# EAGLE library part 693071040911 (library WR-CRD)
WR-CRD SD Card Connectors Characteristics Available in two form factors: SD and MicroSD Available in three entry types: Push-Pull, Hinge and Push-Push SD 4.0 available in SD form factor for higher transfer speed Applications Single-board computers Surveillance systems Industrial data logging Consumer Electronics Drones <https://www.we-online.com/components/media/o32845v209%20Family_ConCRD_693071010811.jpg> Details see: www.we-online.com/components/products/WR-CRD_CARD_CONNECTORS_SD2 <www.we-online.com/catalog/WR-CRD_CARD_CONNECTORS_SD2/?utm_source=eagle_model&utm_medium=description_link&utm_campaign=eisos_eagle> Created by Ella Wu 2025-04-28 2025 (C) Würth Elektronik
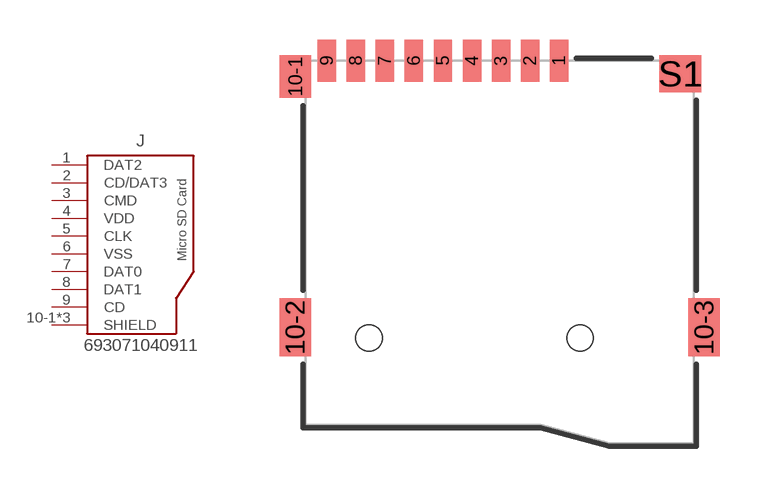
[diagram p0: symbol with the pads of 693071040911; footprint 693071040911]

Designator prefix J

## 693071040911 (DATASHEET-URL: https://www.we-online.com/redexpert/spec/693071040911?ae; DURABILITY: 10000 Mating cycles; GERDER: Receptacle; MOUNT: SMT; PART-NUMBER: 693071040911; PINS: 9pcs; SIZE: Micro SD; TYPE: Push & Push; VALUE: 693071040911)  [693071040911]
1  DAT2  pas
2  CD/DAT3  pas
3  CMD  pas
4  VDD  pas
5  CLK  pas
6  VSS  pas
7  DAT0  pas
8  DAT1  pas
9  CD  pas
10-1  SHIELD  pas
10-2  SHIELD  pas
10-3  SHIELD  pas

## Footprint 693071040911 (pad centres in mm)
smd 0.7 x 1.6: 1 2.25,10.5; 2 1.15,10.5; 3 0.05,10.5; 4 -1.05,10.5; 5 -2.15,10.5; 6 -3.25,10.5; 7 -4.35,10.5; 8 -5.45,10.5; 9 -6.55,10.5
smd 1.2 x 1.6: 10-1 -7.75,9.9
smd 1.2 x 2.2: 10-2 -7.75,0.4; 10-3 7.75,0.4
smd 1.6 x 1.4: S1 6.85,10
hole 1 at -4.95,0
hole 1 at 3.05,0